# Altium schematic symbol library TVS0500DRVR.SchLib: 1 symbol
Pins are listed as number, name and electrical type; pins without a type are passive.

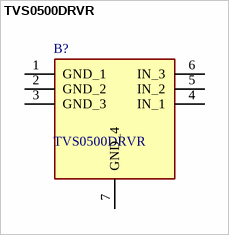
[diagram p0: symbol TVS0500DRVR]

## TVS0500DRVR
designator B?
5V Flat-Clamp Surge Protection Device; Manufacturer_Name: Texas Instruments; Geometry.Height: 0.8mm; Manufacturer_Part_Number: TVS0500DRVR; Mouser Part Number: 595-TVS0500DRVR; Mouser Price/Stock: https://www.mouser.co.uk/ProductDetail/Texas-Instruments/TVS0500DRVR?qs=W0yvOO0ixfE%252BATlQ17YkMw%3D%3D; Arrow Part Number: TVS0500DRVR; Arrow Price/Stock: https://www.arrow.com/en/products/tvs0500drvr/texas-instruments?region=europe; Datasheet Link: http://www.ti.com/lit/gpn/tvs0500
footprint SON65P200X200X80-7N
pins: 1 GND_1, 2 GND_2, 3 GND_3, 4 IN_1, 5 IN_2, 6 IN_3, 7 GND_4